# Altium schematic symbol library FPGA_Microsemi.SchLib: 18 symbols (part 2 of 2)
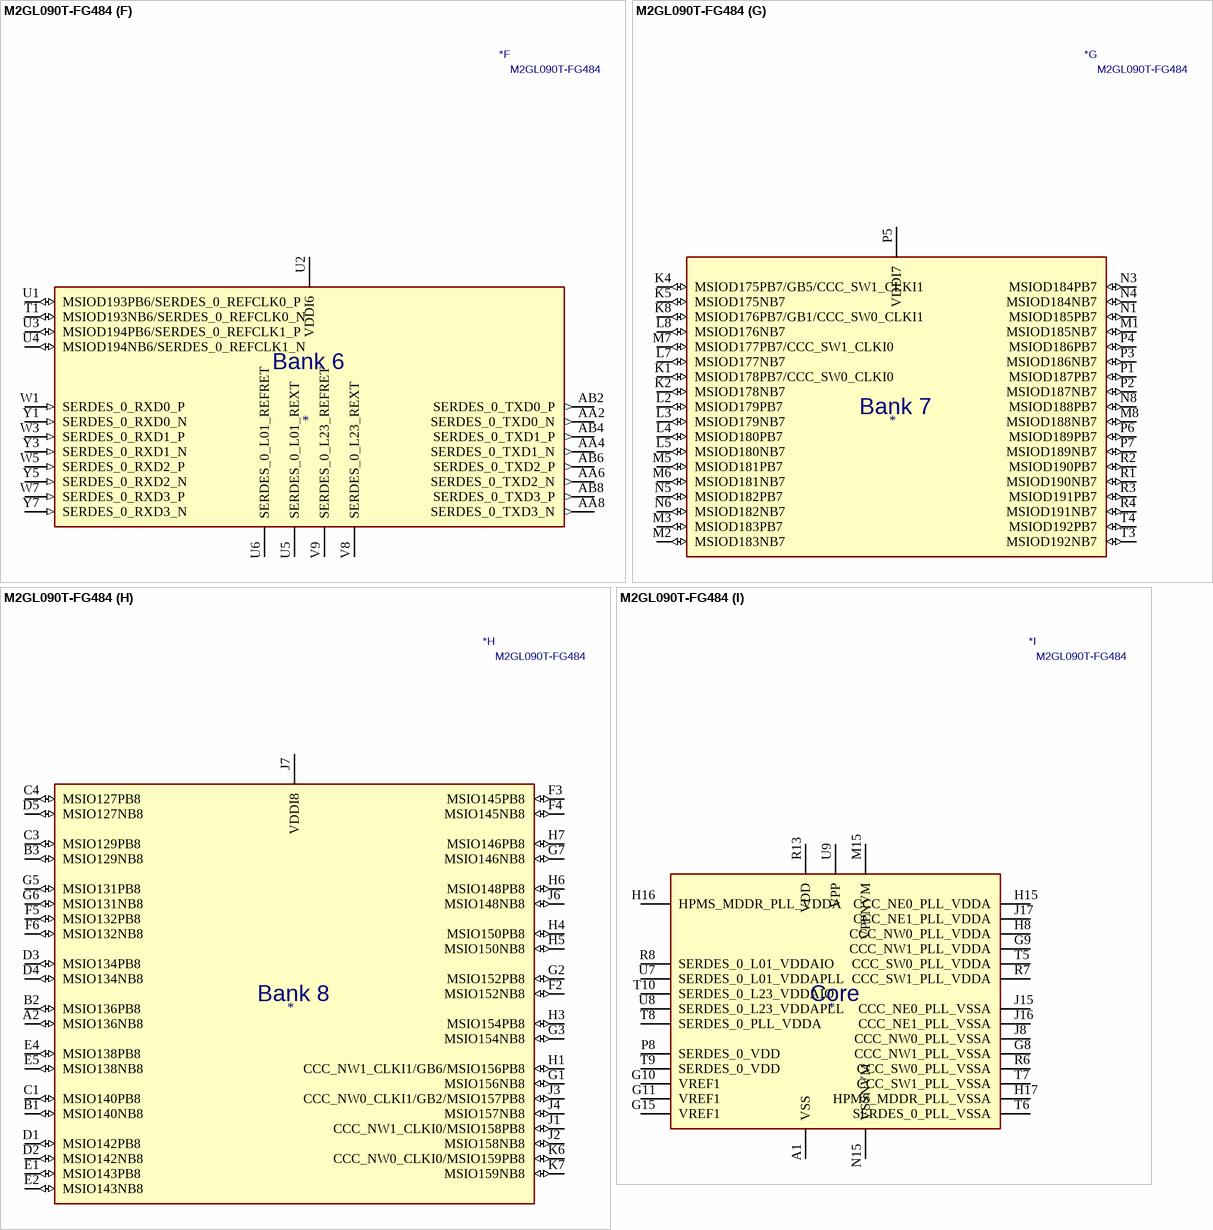
[diagram p8: symbol M2GL090T-FG484]

## M2GL090T-FG484
designator *  value M2GL090T-FG484
ki_keywords: FPGA Igloo2 BGA; ki_description: IGLOO2 FPGA and SmartFusion2 SoC FPGA; ki_fp_filters: BGA*484*23.0x23.0mm*Layout22x22*P1.0mm*; Footprint: Package_BGA:BGA-484_23.0x23.0mm_Layout22x22_P1.0mm; Supplier: https://www.microsemi.com/document-portal/doc_download/132042-ds0128-igloo2-and-smartfusion2-datasheet
footprint BGA-484_23.0x23.0mm_Layout22x22_P1.0mm
part A pins: A3 DDRIO99NB1 (io), A4 DDRIO99PB1 (io), A5 DDRIO98NB1 (io), A6 CCC_NW1_CLKI2/GB4/DDRIO92NB1 (io), A7 MDDR_DQ_ECC1/DDRIO89PB1 (io), A8 MDDR_DQ_ECC0/DDRIO89NB1 (io), A9 MDDR_DQ1/DDRIO87NB1 (io), A10 MDDR_DM_RDQS0/DDRIO84PB1 (io), A11 MDDR_DQ4/DDRIO84NB1 (io), A12 MDDR_DQ8/DDRIO81PB1 (io), A13 MDDR_DQ9/DDRIO81NB1 (io), A14 MDDR_DQ12/CCC_NE1_CLKI2/GB12/DDRIO77PB1 (io), A15 MDDR_DQ13/DDRIO77NB1 (io), A16 DDRIO72PB1/MDDR_CLK (io), A17 DDRIO72NB1/MDDR_CLK_N (io), A18 DDRIO71PB1/MDDR_BA0 (io), A19 DDRIO71NB1/MDDR_BA1 (io), A20 DDRIO67NB1/MDDR_ADDR6 (io), A21 DDRIO64PB1/MDDR_ADDR10 (io), AA21 XTLOSC_MAIN_EXTAL (in), AB21 XTLOSC_MAIN_XTAL (in), B5 DDRIO98PB1 (io), B6 CCC_NW0_CLKI3/GB0/DDRIO92PB1 (io), B7 MDDR_DQS_ECC_N/DDRIO91NB1 (io), B8 VDDI1 hidden, B9 MDDR_DQ0/DDRIO87PB1 (io), B11 MDDR_DQS0/DDRIO85PB1 (io), B12 VDDI1 hidden, B13 MDDR_DQS1/CCC_NE0_CLKI3/GB8/DDRIO79PB1 (io), B15 DDRIO74PB1/MDDR_CKE (io), B16 VDDI1 hidden, B17 DDRIO70NB1/MDDR_ADDR0 (io), B19 DDRIO67PB1/MDDR_ADDR5 (io), B20 VDDI1 hidden, B21 DDRIO64NB1/MDDR_ADDR11 (io), C5 DDRIO97PB1 (io), C6 VDDI1 hidden, C7 MDDR_DQS_ECC/DDRIO91PB1 (io), C9 DDRIO88NB1 (io), C10 VDDI1 hidden, C11 MDDR_DQS0_N/DDRIO85NB1 (io), C13 MDDR_DQS1_N/DDRIO79NB1 (io), C14 VDDI1 hidden, C15 DDRIO74NB1/MDDR_CS_N (io), C16 DDRIO70PB1/MDDR_BA2 (io), C17 DDRIO68PB1/MDDR_ADDR3 (io), C18 DDRIO68NB1/MDDR_ADDR4 (io), C19 DDRIO66NB1/MDDR_ADDR7 (io), C20 DDRIO66PB1/MDDR_ODT (io), D6 DDRIO97NB1 (io), D7 MDDR_IMP_CALIB (in), D8 MDDR_DM_RDQS_ECC/DDRIO90NB1 (io), D9 CCC_NW1_CLKI3/DDRIO88PB1 (io), D10 MDDR_DQ5/DDRIO83PB1 (io), D11 MDDR_DQ6/DDRIO83NB1 (io), D12 CCC_NE0_CLKI2/MDDR_DQ10/DDRIO80PB1 (io), D13 MDDR_DQ11/DDRIO80NB1 (io), D14 MDDR_DQ14/CCC_NE1_CLKI3/DDRIO76PB1 (io), D16 DDRIO69PB1/MDDR_ADDR1 (io), D17 VDDI1 hidden, D18 DDRIO62PB1/MDDR_ADDR14 (io), D20 DDRIO63NB1/MDDR_ADDR13 (io), E7 MDDR_TMATCH_ECC_OUT/DDRIO93PB1 (io), E8 MDDR_TMATCH_ECC_IN/DDRIO90PB1 (out), E10 MDDR_DQ3/DDRIO86NB1 (io), E11 VDDI1 hidden, E12 MDDR_DQ7/DDRIO82PB1 (io), E13 MDDR_DQ15/DDRIO76NB1 (io), E15 DDRIO73PB1/MDDR_RESET_N (io), E16 DDRIO69NB1/MDDR_ADDR2 (io), E17 DDRIO65PB1/MDDR_ADDR8 (io), E18 DDRIO62NB1/MDDR_ADDR15 (io), E19 DDRIO63PB1/MDDR_ADDR12 (io), F7 VDDI1 hidden, F8 CCC_NW0_CLKI2/DDRIO93NB1 (io), F9 VDDI1 hidden, F10 MDDR_DQ2/DDRIO86PB1 (io), F12 MDDR_TMATCH_0_OUT/DDRIO82NB1 (io), F13 VDDI1 hidden, F14 DDRIO75PB1/MDDR_RAS_N (io), F15 DDRIO73NB1/MDDR_CAS_N (io), F17 DDRIO65NB1/MDDR_ADDR9 (io), G12 MDDR_TMATCH_0_IN/DDRIO78PB1 (io), G13 MDDR_DM_RDQS1/DDRIO78NB1 (io), G14 DDRIO75NB1/MDDR_WE_N (io), H12 VDDI1 hidden, H14 VDDI1 (power)
part B pins: B22 MSIO60NB2 (io), C22 MSIO60PB2 (io), D21 MSI59NB2 (in), D22 FLASH_GOLDEN_N (in), E20 VDDI2 hidden, E21 MSIO58NB2 (io), E22 MSIO58PB2 (io), F18 MSIO57NB2 (io), F19 MSIO57PB2 (io), F20 MSIO56NB2 (io), F21 MSIO56PB2 (io), F22 VDDI2 hidden, G16 MSIO61NB2 (io), G17 MSIO61PB2 (io), G18 MSIO55NB2 (io), G19 MSIO55PB2/GB14/VCCC_SE1_CLKI (io), G21 MSIO53NB2 (io), G22 MSIO53PB2/CCC_NE1_CLKI1 (io), H18 VDDI2 hidden, H19 MSIO54NB2 (io), H20 MSIO54PB2/GB10/VCCC_SE0_CLKI (io), H21 MSIO51NB2 (io), H22 MSIO51PB2 (io), J19 MSIO52NB2 (io), J20 MSIO52PB2/CCC_NE0_CLKI1 (io), J21 VDDI2 (power)
part C pins: J18 MSIO24NB3 (io), J22 VCCC_SE1_CLKI/GB13/MSIO20NB3 (io), K15 MSIO22NB3 (io), K16 MSIO23NB3 (io), K17 MSIO23PB3 (io), K18 MSIO24PB3 (io), K20 MSIO19NB3 (io), K21 MSIO19PB3 (io), K22 VCCC_SE0_CLKI/GB9/MSIO20PB3 (io), L16 MSIO22PB3 (io), L17 VDDI3 hidden, L18 MSIO18NB3 (io), L19 MSIO18PB3 (io), L20 MSIO17NB3 (io), L21 MSIO17PB3 (io), M16 MSIO14PB3 (io), M17 MSIO14NB3 (io), M18 MSIO15PB3 (io), M19 MSIO15NB3 (io), M20 VDDI3 hidden, M21 MSIO16PB3 (io), M22 MSIO16NB3 (io), N16 MSIO8PB3 (io), N17 MSIO8NB3 (io), N19 MSIO12PB3/SPI_0_CLK (io), N20 MSIO12NB3/SPI_0_SDI (io), N21 MSIO13PB3/SPI_0_SDO (io), N22 MSIO13NB3/SPI_0_SS0 (io), P16 MSIO7NB3 (io), P17 MSIO6PB3 (io), P18 MSIO6NB3 (io), P19 SC_SPI_SDO (out), P20 SC_SPI_SS (out), P22 MSIO11PB3/CCC_NE0_CLKI0 (io), R16 MSIO7PB3 (io), R17 MSIO1PB3 (io), R18 MSIO1NB3 (io), R19 VDDI3 hidden, R20 SC_SPI_CLK (out), R21 SC_SPI_SDI (in), R22 MSIO11NB3/CCC_NE1_CLKI0 (io), T18 MSIO2PB3 (io), T19 MSIO2NB3 (io), T20 MSIO5PB3 (io), T21 MSIO5NB3 (io), T22 VDDI3 (power), U19 MSIO0PB3 (io), U21 MSIO4NB3 (io), U22 MSIO4PB3 (io), V19 MSIO0NB3 (io), V21 MSIO3NB3 (io), V22 MSIO3PB3 (io)
part D pins: AA22 JTAGSEL (in), V20 JTAG_TMS (in), W20 JTAG_TCK (in), W21 VDDI4 (power), W22 JTAG_TDI (in), Y21 JTAG_TDO (out), Y22 JTAG_TRSTB (in)
part E pins: AA10 MSIO198PB5 (io), AA11 MSIO203PB5 (io), AA12 MSIO204PB5 (io), AA13 MSIO209PB5/VCCC_SE0_CLKI (io), AA15 MSIO213NB5 (io), AA16 MSIO222PB5 (io), AA17 MSIO222NB5 (io), AA18 MSIO221NB5 (io), AA19 VDDI5 hidden, AB10 MSIO198NB5 (io), AB11 MSIO203NB5 (io), AB12 VDDI5 hidden, AB13 MSIO208PB5/CCC_SW1_CLKI3 (io), AB14 MSIO208NB5 (io), AB15 MSIO213PB5/VCCC_SE1_CLKI (io), AB17 MSIO221PB5 (io), AB18 MSIO230PB5 (io), AB19 MSIO230NB5 (io), R15 DEVRST_N (in), T13 MSIO210NB5 (io), T14 VDDI5 hidden, T16 MSIO232NB5 (io), U10 MSIO199PB5 (io), U11 MSIO199NB5 (io), U13 MSIO210PB5/GB11/VCCC_SE0_CLKI (io), U14 MSIO218PB5 (io), U15 MSIO218NB5 (io), U16 MSIO232PB5 (io), U17 MSIO234NB5 (io), U18 MSIO238NB5 (io), V10 VDDI5 hidden, V11 MSIO201PB5/GB3/CCC_SW0_CLKI3 (io), V12 MSIO206NB5 (io), V13 MSIO211PB5 (io), V14 MSIO211NB5 (io), V16 MSIO224NB5 (io), V17 MSIO234PB5 (io), V18 MSIO238PB5 (io), W9 MSIO196PB5 (io), W10 MSIO197PB5/PROBE_A (io), W11 MSIO201NB5/GB7/CCC_SW1_CLKI2 (io), W12 MSIO206PB5 (io), W13 VDDI5 hidden, W14 MSIO212NB5 (io), W15 MSIO216NB5 (io), W16 MSIO224PB5 (io), W17 MSIO226NB5 (io), W19 MSIO236NB5 (io), Y9 MSIO196NB5/CCC_SW0_CLKI2 (io), Y10 MSIO197NB5/PROBE_B (io), Y12 MSIO204NB5 (io), Y13 MSIO209NB5 (io), Y14 MSIO212PB5/GB15/VCCC_SE1_CLKI (io), Y15 MSIO216PB5 (io), Y16 VDDI5 (power), Y17 MSIO226PB5 (io), Y18 MSIO228PB5 (io), Y19 MSIO228NB5 (io), Y20 MSIO236PB5 (io)
part F pins: AA2 SERDES_0_TXD0_N (out), AA4 SERDES_0_TXD1_N (out), AA6 SERDES_0_TXD2_N (out), AA8 SERDES_0_TXD3_N (out), AB2 SERDES_0_TXD0_P (out), AB4 SERDES_0_TXD1_P (out), AB6 SERDES_0_TXD2_P (out), AB8 SERDES_0_TXD3_P (out), T1 MSIOD193NB6/SERDES_0_REFCLK0_N (io), U1 MSIOD193PB6/SERDES_0_REFCLK0_P (io), U2 VDDI6 (power), U3 MSIOD194PB6/SERDES_0_REFCLK1_P (io), U4 MSIOD194NB6/SERDES_0_REFCLK1_N (io), U5 SERDES_0_L01_REXT (power), U6 SERDES_0_L01_REFRET (power), V8 SERDES_0_L23_REXT (power), V9 SERDES_0_L23_REFRET (power), W1 SERDES_0_RXD0_P (in), W3 SERDES_0_RXD1_P (in), W5 SERDES_0_RXD2_P (in), W7 SERDES_0_RXD3_P (in), Y1 SERDES_0_RXD0_N (in), Y3 SERDES_0_RXD1_N (in), Y5 SERDES_0_RXD2_N (in), Y7 SERDES_0_RXD3_N (in)
part G pins: K1 MSIOD178PB7/CCC_SW0_CLKI0 (io), K2 MSIOD178NB7 (io), K3 VDDI7 hidden, K4 MSIOD175PB7/GB5/CCC_SW1_CLKI1 (io), K5 MSIOD175NB7 (io), K8 MSIOD176PB7/GB1/CCC_SW0_CLKI1 (io), L2 MSIOD179PB7 (io), L3 MSIOD179NB7 (io), L4 MSIOD180PB7 (io), L5 MSIOD180NB7 (io), L6 VDDI7 hidden, L7 MSIOD177NB7 (io), L8 MSIOD176NB7 (io), M1 MSIOD185NB7 (io), M2 MSIOD183NB7 (io), M3 MSIOD183PB7 (io), M5 MSIOD181PB7 (io), M6 MSIOD181NB7 (io), M7 MSIOD177PB7/CCC_SW1_CLKI0 (io), M8 MSIOD188NB7 (io), N1 MSIOD185PB7 (io), N2 VDDI7 hidden, N3 MSIOD184PB7 (io), N4 MSIOD184NB7 (io), N5 MSIOD182PB7 (io), N6 MSIOD182NB7 (io), N8 MSIOD188PB7 (io), P1 MSIOD187PB7 (io), P2 MSIOD187NB7 (io), P3 MSIOD186NB7 (io), P4 MSIOD186PB7 (io), P5 VDDI7 (power), P6 MSIOD189PB7 (io), P7 MSIOD189NB7 (io), R1 MSIOD190NB7 (io), R2 MSIOD190PB7 (io), R3 MSIOD191PB7 (io), R4 MSIOD191NB7 (io), T3 MSIOD192NB7 (io), T4 MSIOD192PB7 (io)
part H pins: A2 MSIO136NB8 (io), B1 MSIO140NB8 (io), B2 MSIO136PB8 (io), B3 MSIO129NB8 (io), C1 MSIO140PB8 (io), C2 VDDI8 hidden, C3 MSIO129PB8 (io), C4 MSIO127PB8 (io), D1 MSIO142PB8 (io), D2 MSIO142NB8 (io), D3 MSIO134PB8 (io), D4 MSIO134NB8 (io), D5 MSIO127NB8 (io), E1 MSIO143PB8 (io), E2 MSIO143NB8 (io), E4 MSIO138PB8 (io), E5 MSIO138NB8 (io), F1 VDDI8 hidden, F2 MSIO152NB8 (io), F3 MSIO145PB8 (io), F4 MSIO145NB8 (io), F5 MSIO132PB8 (io), F6 MSIO132NB8 (io), G1 MSIO156NB8 (io), G2 MSIO152PB8 (io), G3 MSIO154NB8 (io), G4 VDDI8 hidden, G5 MSIO131PB8 (io), G6 MSIO131NB8 (io), G7 MSIO146NB8 (io), H1 CCC_NW1_CLKI1/GB6/MSIO156PB8 (io), H3 MSIO154PB8 (io), H4 MSIO150PB8 (io), H5 MSIO150NB8 (io), H6 MSIO148PB8 (io), H7 MSIO146PB8 (io), J1 CCC_NW1_CLKI0/MSIO158PB8 (io), J2 MSIO158NB8 (io), J3 CCC_NW0_CLKI1/GB2/MSIO157PB8 (io), J4 MSIO157NB8 (io), J6 MSIO148NB8 (io), J7 VDDI8 (power), K6 CCC_NW0_CLKI0/MSIO159PB8 (io), K7 MSIO159NB8 (io)
part I pins: A1 VSS (power), A22 VSS hidden, AA1 VSS hidden, AA3 VSS hidden, AA5 VSS hidden, AA7 VSS hidden, AA9 VSS hidden, AA14 VSS hidden, AA20 VPP hidden, AB1 VSS hidden, AB3 VSS hidden, AB5 VSS hidden, AB7 VSS hidden, AB9 VSS hidden, AB16 VSS hidden, AB20 VPP hidden, AB22 VSS hidden, B4 VSS hidden, B10 VSS hidden, B14 VSS hidden, B18 VSS hidden, C8 VSS hidden, C12 VSS hidden, C21 VSS hidden, D15 VSS hidden, D19 VSS hidden, E3 VSS hidden, E6 VSS hidden, E9 VSS hidden, E14 VSS hidden, F11 VSS hidden, F16 VSS hidden, G8 CCC_NW1_PLL_VSSA (power), G9 CCC_NW1_PLL_VDDA (power), G10 VREF1 (power), G11 VREF1 (power), G15 VREF1 (power), G20 VSS hidden, H2 VSS hidden, H8 CCC_NW0_PLL_VDDA (power), H9 VSS hidden, H10 VDD hidden, H11 VSS hidden, H13 VSS hidden, H15 CCC_NE0_PLL_VDDA (power), H16 HPMS_MDDR_PLL_VDDA (power), H17 HPMS_MDDR_PLL_VSSA (power), J5 VSS hidden, J8 CCC_NW0_PLL_VSSA (power), J9 VDD hidden, J10 VSS hidden, J11 VDD hidden, J12 VSS hidden, J13 VDD hidden, J14 VSS hidden, J15 CCC_NE0_PLL_VSSA (power), J16 CCC_NE1_PLL_VSSA (power), J17 CCC_NE1_PLL_VDDA (power), K9 VSS hidden, K10 VDD hidden, K11 VSS hidden, K12 VDD hidden, K13 VSS hidden, K14 VDD hidden, K19 VSS hidden, L1 VSS hidden, L9 VDD hidden, L10 VSS hidden, L11 VDD hidden, L12 VSS hidden, L13 VDD hidden, L14 VSS hidden, L15 VPP hidden, L22 VSS hidden, M4 VSS hidden, M9 VSS hidden, M10 VDD hidden, M11 VSS hidden, M12 VDD hidden, M13 VSS hidden, M14 VDD hidden, M15 VPPNVM (power), N7 VSS hidden, N9 VDD hidden, N10 VSS hidden, N11 VDD hidden, N12 VSS hidden, N13 VDD hidden, N14 VSS hidden, N15 VSSNVM (power), N18 VSS hidden, P8 SERDES_0_VDD (power), P9 VSS hidden, P10 VDD hidden, P11 VSS hidden, P12 VDD hidden, P13 VSS hidden, P14 VDD hidden, P15 VPP hidden, P21 VSS hidden, R5 VSS hidden, R6 CCC_SW0_PLL_VSSA (power), R7 CCC_SW1_PLL_VDDA (power), R8 SERDES_0_L01_VDDAIO (power), R9 VSS hidden, R10 VSS hidden, R11 VDD hidden, R12 VSS hidden, R13 VDD (power), R14 VSS hidden, T2 VSS hidden, T5 CCC_SW0_PLL_VDDA (power), T6 SERDES_0_PLL_VSSA (power), T7 CCC_SW1_PLL_VSSA (power), T8 SERDES_0_PLL_VDDA (power), T9 SERDES_0_VDD (power), T10 SERDES_0_L23_VDDAIO (power), T11 NC (in) hidden, T12 NC (in) hidden, T15 VSS hidden, T17 VSS hidden, U7 SERDES_0_L01_VDDAPLL (power), U8 SERDES_0_L23_VDDAPLL (power), U9 VPP (power), U12 VSS hidden, U20 VSS hidden, V1 VSS hidden, V2 VSS hidden, V3 VSS hidden, V4 VSS hidden, V5 VSS hidden, V6 VSS hidden, V7 VSS hidden, V15 VSS hidden, W2 VSS hidden, W4 VSS hidden, W6 VSS hidden, W8 VSS hidden, W18 VSS hidden, Y2 VSS hidden, Y4 VSS hidden, Y6 VSS hidden, Y8 VSS hidden, Y11 VSS hidden
part A text: Bank 1
part B text: Bank 2
part C text: Bank 3
part D text: Bank 4
part E text: Bank 5
part F text: Bank 6
part G text: Bank 7
part H text: Bank 8
part I text: Core